# EAGLE library part XMEGA_BREAKOUT_PCB (library AmandaEagleLibrary)
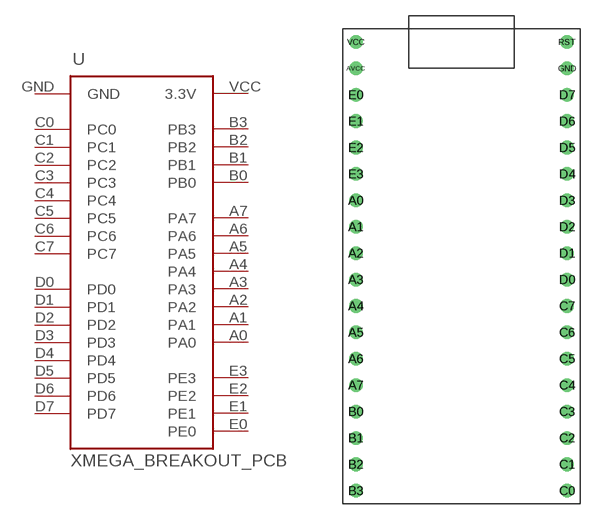
[diagram p9: symbol with the pads of XMEGA_BREAKOUT_PCB; footprint XMEGA_BREAKOUT_PCB]

Designator prefix -

## XMEGA_BREAKOUT_PCB  [XMEGA_BREAKOUT_PCB]
A0  PA0
A1  PA1
A2  PA2
A3  PA3
A4  PA4
A5  PA5
A6  PA6
A7  PA7
B0  PB0
B1  PB1
B2  PB2
B3  PB3
C0  PC0
C1  PC1
C2  PC2
C3  PC3
C4  PC4
C5  PC5
C6  PC6
C7  PC7
D0  PD0
D1  PD1
D2  PD2
D3  PD3
D4  PD4
D5  PD5
D6  PD6
D7  PD7
E0  PE0
E1  PE1
E2  PE2
E3  PE3
GND  GND
VCC  3.3V

## Footprint XMEGA_BREAKOUT_PCB (pad centres in mm)
drill 0.8: A0 -10.16,3.81; A1 -10.16,1.27; A2 -10.16,-1.27; A3 -10.16,-3.81; A4 -10.16,-6.35; A5 -10.16,-8.89; A6 -10.16,-11.43; A7 -10.16,-13.97; AVCC -10.16,16.51; B0 -10.16,-16.51; B1 -10.16,-19.05; B2 -10.16,-21.59; B3 -10.16,-24.13; C0 10.16,-24.13; C1 10.16,-21.59; C2 10.16,-19.05; C3 10.16,-16.51; C4 10.16,-13.97; C5 10.16,-11.43; C6 10.16,-8.89; C7 10.16,-6.35; D0 10.16,-3.81; D1 10.16,-1.27; D2 10.16,1.27; D3 10.16,3.81; D4 10.16,6.35; D5 10.16,8.89; D6 10.16,11.43; D7 10.16,13.97; E0 -10.16,13.97; E1 -10.16,11.43; E2 -10.16,8.89; E3 -10.16,6.35; GND 10.16,16.51; RST 10.16,19.05; VCC -10.16,19.05